# EAGLE library part TLE8104E (library infineon2)
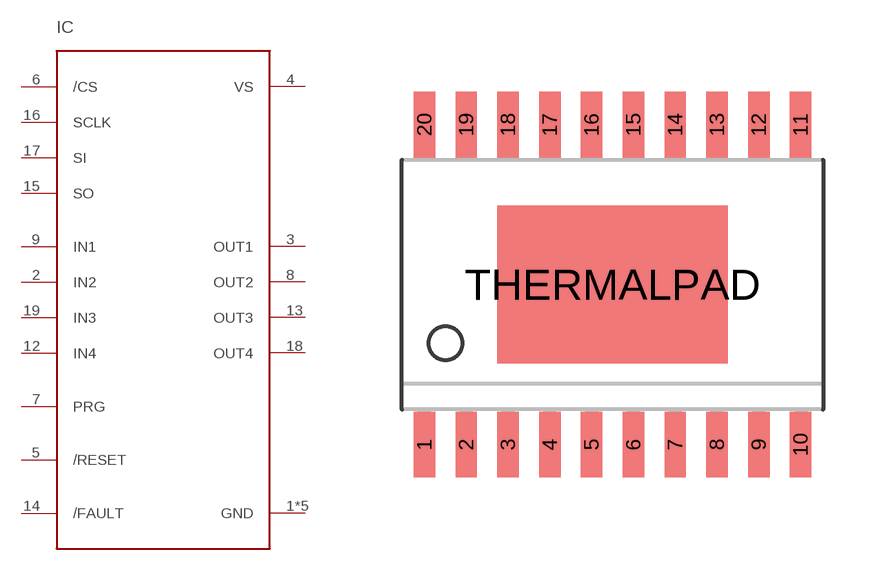
[diagram p0: symbol with the pads of PG-DSO-20-30; footprint PG-DSO-20-30]

Designator prefix IC

## TLE8104E  [PG-DSO-20-30]
1  GND
2  IN2
3  OUT1
4  VS
5  /RESET
6  /CS
7  PRG
8  OUT2
9  IN1
10  GND
11  GND
12  IN4
13  OUT3
14  /FAULT
15  SO
16  SCLK
17  SI
18  OUT4
19  IN3
20  GND
THERMALPAD  GND

## Footprint PG-DSO-20-30 (pad centres in mm)
smd 0.65 x 2: 1 -5.713,-4.865; 2 -4.443,-4.865; 3 -3.173,-4.865; 4 -1.903,-4.865; 5 -0.633,-4.865; 6 0.637,-4.865; 7 1.907,-4.865; 8 3.177,-4.865; 9 4.447,-4.865; 10 5.717,-4.865; 11 5.717,4.865; 12 4.447,4.865; 13 3.177,4.865; 14 1.907,4.865; 15 0.637,4.865; 16 -0.633,4.865; 17 -1.903,4.865; 18 -3.173,4.865; 19 -4.443,4.865; 20 -5.713,4.865
smd 7 x 4.8: THERMALPAD 0,0